# Altium footprint library 20021311-00012T4LF.PcbLib: 1 footprints
Each footprint in its own frame and in the unit in brackets; x right, y up, seen from the top. Pads: shape width x height; smd on the part's side, far side on the other; paste and mask are expansions set on the pad; w line width, h text height; cw(c..) or ccw(c..) is an arc to the next point about the centre after c.
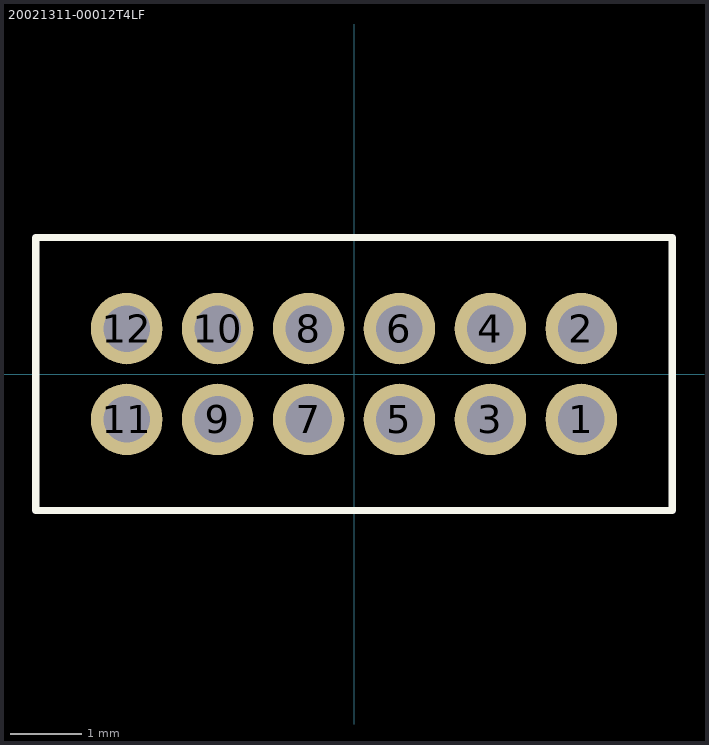
[diagram p0: the footprint, top view; thin cyan lines are the x and y axes]

## 20021311-00012T4LF [mm]
pads (12):
  round 1 hole 0.65: 1(3.175,-0.635) 2(3.175,0.635) 3(1.905,-0.635) 4(1.905,0.635) 5(0.635,-0.635) 6(0.635,0.635) 7(-0.635,-0.635) 8(-0.635,0.635) 9(-1.905,-0.635) 10(-1.905,0.635) 11(-3.175,-0.635) 12(-3.175,0.635)
Top Overlay:
  lines w0.1: -4.445,-1.905 4.445,-1.905 4.445,1.905 -4.445,1.905 -4.445,-1.905
3D body: height 4.3, standoff -2.4, extent -4.04,-1.5 4.04,1.5